# Altium schematic symbol library 零散元件库.SCHLIB: 18 symbols
Pins are listed as number, name and electrical type; pins without a type are passive.

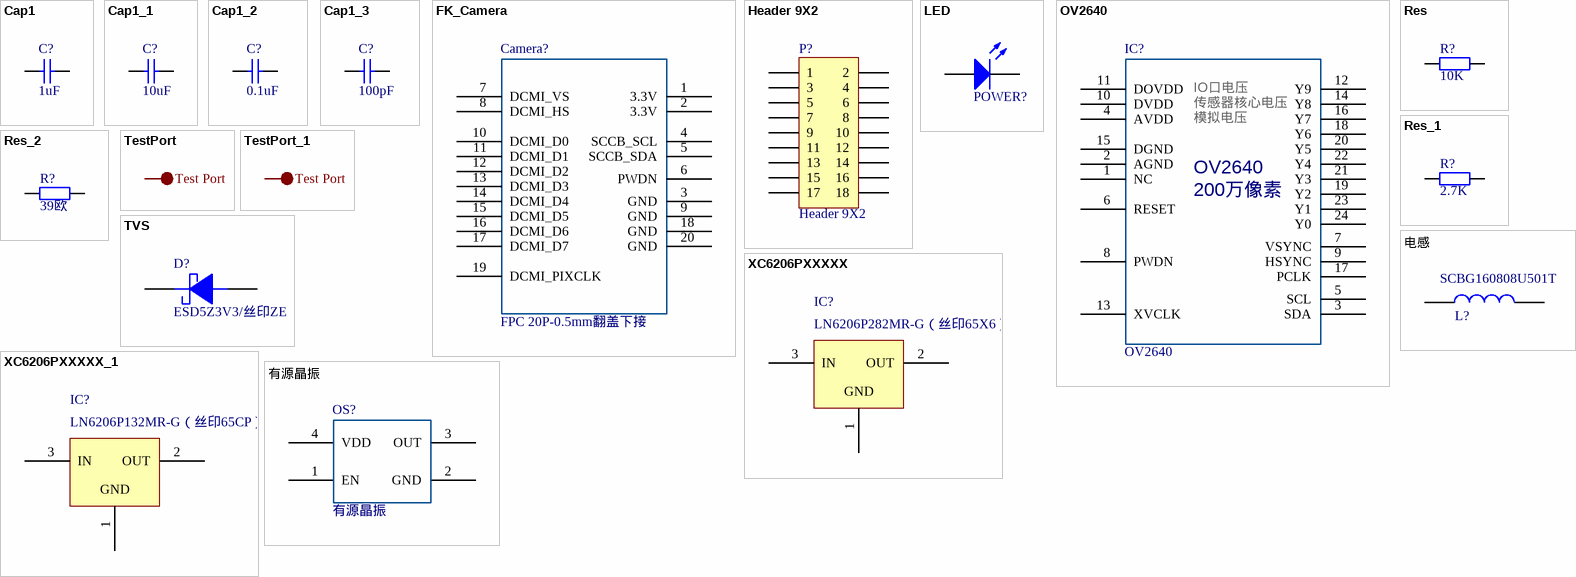
[diagram p0: symbols Cap1 to 电感]

## Cap1
designator C?, comment 1uF
value: 1uF
footprint RAD0.2
footprint RAD0.3
footprint RAD0.4
footprint RAD0.5
footprint RAD0.6
footprint 0603-cap (Chip Capacitor, 2-Leads, Body 1.60x0.80mm, IPC Medium Density)
footprint 0805-CAP (Chip Capacitor, 2-Leads, Body 2.80x1.40mm, IPC Medium Density)
footprint 0402-CAP (Chip Capacitor, 2-Leads, Body 1.00x0.50mm, IPC Medium Density)
pins: 1, 2

## Cap1_1
designator C?, comment 10uF
value: 10uF
footprint RAD0.2
footprint RAD0.3
footprint RAD0.4
footprint RAD0.5
footprint RAD0.6
footprint 0603-cap (Chip Capacitor, 2-Leads, Body 1.60x0.80mm, IPC Medium Density)
footprint 0805-CAP (Chip Capacitor, 2-Leads, Body 2.80x1.40mm, IPC Medium Density)
footprint 0402-CAP (Chip Capacitor, 2-Leads, Body 1.00x0.50mm, IPC Medium Density)
pins: 1, 2

## Cap1_2
designator C?, comment 0.1uF
value: 0.1uF
footprint RAD0.2
footprint RAD0.3
footprint RAD0.4
footprint RAD0.5
footprint RAD0.6
footprint 0603-cap (Chip Capacitor, 2-Leads, Body 1.60x0.80mm, IPC Medium Density)
footprint 0805-CAP (Chip Capacitor, 2-Leads, Body 2.80x1.40mm, IPC Medium Density)
footprint 0402-CAP (Chip Capacitor, 2-Leads, Body 1.00x0.50mm, IPC Medium Density)
pins: 1, 2

## Cap1_3
designator C?, comment 100pF
value: 100pF
footprint RAD0.2
footprint RAD0.3
footprint RAD0.4
footprint RAD0.5
footprint RAD0.6
footprint 0603-cap (Chip Capacitor, 2-Leads, Body 1.60x0.80mm, IPC Medium Density)
footprint 0805-CAP (Chip Capacitor, 2-Leads, Body 2.80x1.40mm, IPC Medium Density)
footprint 0402-CAP (Chip Capacitor, 2-Leads, Body 1.00x0.50mm, IPC Medium Density)
pins: 1, 2

## FK_Camera
designator Camera?, comment FPC 20P-0.5mm翻盖下接
footprint FPC20P-0.5MM
pins: 1 3.3V, 2 3.3V, 3 GND, 4 SCCB_SCL, 5 SCCB_SDA, 6 PWDN, 7 DCMI_VS, 8 DCMI_HS, 9 GND, 10 DCMI_D0, 11 DCMI_D1, 12 DCMI_D2, 13 DCMI_D3, 14 DCMI_D4, 15 DCMI_D5, 16 DCMI_D6, 17 DCMI_D7, 18 GND, 19 DCMI_PIXCLK, 20 GND

## Header 9X2
designator P?
Header, 9-Pin, Dual row; LatestRevisionDate: 17-Jul-2002; LatestRevisionNote: Re-released for DXP Platform.; Publisher: Altium Limited
footprint HDR2X9 (Connector; Header; 9x2 Position)
signal-integrity model Connector
pins: 1, 2, 3, 4, 5, 6, 7, 8, 9, 10, 11, 12, 13, 14, 15, 16, 17, 18

## LED
designator POWER?  (value not drawn)
footprint D0805
footprint LED1
footprint LED2
footprint D1206
footprint D0603
pins: 1 A, 2 K

## OV2640
designator IC?
footprint OV2640
pins: 1 NC, 2 AGND, 3 SDA, 4 AVDD, 5 SCL, 6 RESET, 7 VSYNC, 8 PWDN, 9 HSYNC, 10 DVDD, 11 DOVDD, 12 Y9, 13 XVCLK, 14 Y8, 15 DGND, 16 Y7, 17 PCLK, 18 Y6, 19 Y2, 20 Y5, 21 Y3, 22 Y4, 23 Y1, 24 Y0
text: IO口电压; 传感器核心电压; 模拟电压; 200万像素

## Res
designator R?, comment 10K
value: 10K
footprint AXIAL0.4
footprint AXIAL0.8
footprint 2512
footprint AXIAL0.5
footprint AXIAL0.6
footprint 0603-res
footprint 0805-res (Chip Resistor, 2-Leads, Body 2.20x1.25mm, IPC Medium Density)
footprint 0402-RES (Chip Resistor, 2-Leads, Body 1.00x0.50mm, IPC Medium Density)
footprint 1206 - RES (Chip Resistor, 2-Leads, Body 3.20x1.60mm, IPC Medium Density)
pins: 1, 2

## Res_1
designator R?, comment 2.7K
value: 2.7K
footprint AXIAL0.4
footprint AXIAL0.8
footprint 2512
footprint AXIAL0.5
footprint AXIAL0.6
footprint 0603-res
footprint 0805-res (Chip Resistor, 2-Leads, Body 2.20x1.25mm, IPC Medium Density)
footprint 0402-RES (Chip Resistor, 2-Leads, Body 1.00x0.50mm, IPC Medium Density)
footprint 1206 - RES (Chip Resistor, 2-Leads, Body 3.20x1.60mm, IPC Medium Density)
pins: 1, 2

## Res_2
designator R?, comment 39欧
value: 39欧
footprint AXIAL0.4
footprint AXIAL0.8
footprint 2512
footprint AXIAL0.5
footprint AXIAL0.6
footprint 0603-res
footprint 0805-res (Chip Resistor, 2-Leads, Body 2.20x1.25mm, IPC Medium Density)
footprint 0402-RES (Chip Resistor, 2-Leads, Body 1.00x0.50mm, IPC Medium Density)
footprint 1206 - RES (Chip Resistor, 2-Leads, Body 3.20x1.60mm, IPC Medium Density)
pins: 1, 2

## TestPort
designator 1.?  (value not drawn)
1.3
footprint TestPort
footprint TEST-PORT-GND
pins: 1 Test Port

## TestPort_1
designator 2.?, comment TestPort  (value not drawn)
footprint TestPort
footprint TEST-PORT-GND
pins: 1 Test Port

## TVS
designator D?, comment ESD5Z3V3/丝印ZE
footprint SOD323 (SODFL, 2-Leads, Body 1.30x2.60mm, IPC Medium Density)
footprint SMA/DO-214AC
footprint SMB/DO-214AA
footprint SOD523
pins: 1 +, 2 -

## XC6206PXXXXX
designator IC?, comment LN6206P282MR-G（丝印65X6）
footprint SO-G3 (SOT-23; 3 Leads; Body 3.0 x 2.6 mm, inc. leads (LxW max))
pins: 1 GND, 2 OUT, 3 IN

## XC6206PXXXXX_1
designator IC?, comment LN6206P132MR-G（丝印65CP）
footprint SO-G3 (SOT-23; 3 Leads; Body 3.0 x 2.6 mm, inc. leads (LxW max))
pins: 1 GND, 2 OUT, 3 IN

## 有源晶振
designator OS?
footprint 5032有源晶振
footprint 3225_有源晶振
pins: 1 EN, 2 GND, 3 OUT, 4 VDD

## 电感
designator L?, comment SCBG160808U501T
footprint AXIAL0.5
footprint 0805 (Chip Resistor, 2-Leads, Body 2.0x1.3mm, IPC Medium Density)
footprint AXIAL0.7
footprint 7257
footprint L12.6
footprint 1210
footprint CDRH104R
footprint CDRH4D28
footprint 0603-res
footprint 0402-res
pins: 1, 2